# Altium schematic symbol library MQ-4.SchLib: 1 symbol
Pins are listed as number, name and electrical type; pins without a type are passive.

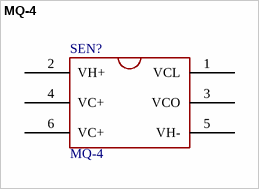
[diagram p0: symbol MQ-4]

## MQ-4
designator SEN?
Methane Sensor
footprint MQ4
pins: 1 VCL, 2 VH+, 3 VCO, 4 VC+, 5 VH-, 6 VC+